# EAGLE library part 8PIN (library pedals-submini tubes)
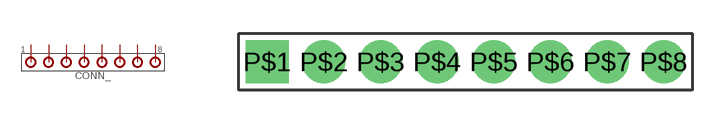
[diagram p1: symbol with the pads of 8PIN; footprint 8PIN]

Designator prefix CONN_

## 8PIN  [8PIN]
P$1  P$1
P$2  P$2
P$3  P$3
P$4  P$4
P$5  P$5
P$6  P$6
P$7  P$7
P$8  P$8

## Footprint 8PIN (pad centres in mm)
drill 1.2 pad 1.93 square: P$1 0,0
drill 1.2 pad 1.93: P$2 2.54,0; P$3 5.08,0; P$4 7.62,0; P$5 10.16,0; P$6 12.7,0; P$7 15.24,0; P$8 17.78,0